# EAGLE library part LFXP6C_XXP208 (library lattice)
lfxp6c pqfp208 Auto generated by make-symbol-device-package-bsdl.ulp Rev. 19 Source: lfxp6c_pqfp208.bsm
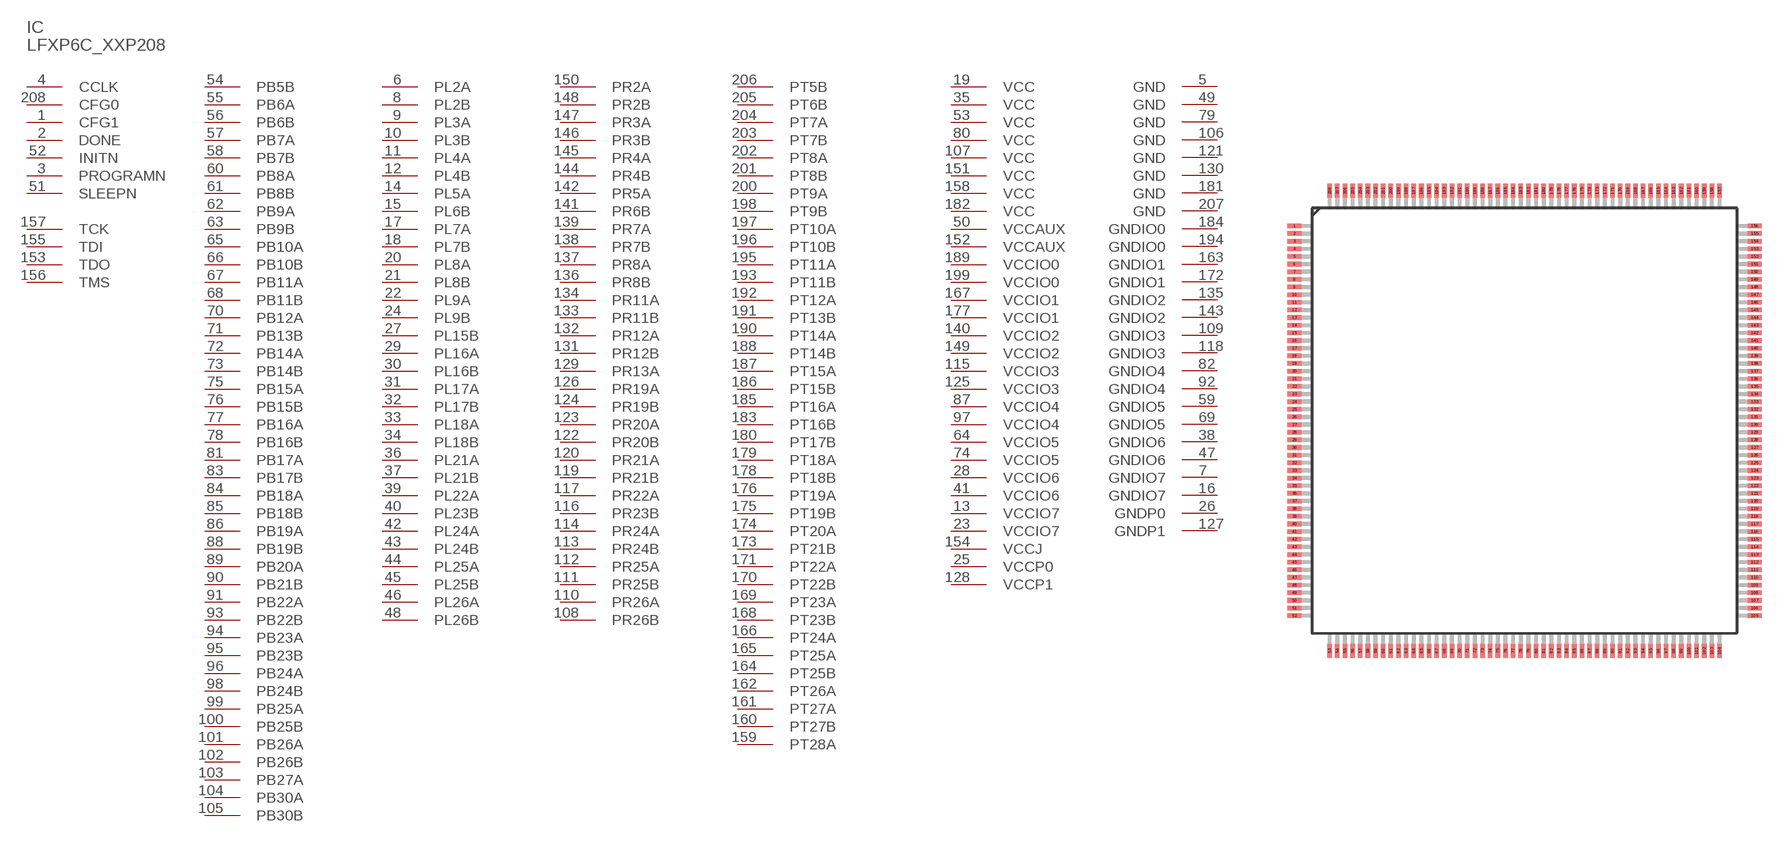
[diagram p11: symbol with the pads of PQFP_208; footprint PQFP_208]

Designator prefix IC

## LFXP6C_XXP208 (OC_FARNELL: unknown; OC_NEWARK: unknown)  [PQFP_208]
1  CFG1  in
2  DONE
3  PROGRAMN  in
4  CCLK
5  GND  pwr
6  PL2A
7  GNDIO7  pwr
8  PL2B
9  PL3A
10  PL3B
11  PL4A
12  PL4B
13  VCCIO7  pwr
14  PL5A
15  PL6B
16  GNDIO7  pwr
17  PL7A
18  PL7B
19  VCC  pwr
20  PL8A
21  PL8B
22  PL9A
23  VCCIO7  pwr
24  PL9B
25  VCCP0  pwr
26  GNDP0  pwr
27  PL15B
28  VCCIO6  pwr
29  PL16A
30  PL16B
31  PL17A
32  PL17B
33  PL18A
34  PL18B
35  VCC  pwr
36  PL21A
37  PL21B
38  GNDIO6  pwr
39  PL22A
40  PL23B
41  VCCIO6  pwr
42  PL24A
43  PL24B
44  PL25A
45  PL25B
46  PL26A
47  GNDIO6  pwr
48  PL26B
49  GND  pwr
50  VCCAUX  pwr
51  SLEEPN  in
52  INITN
53  VCC  pwr
54  PB5B
55  PB6A
56  PB6B
57  PB7A
58  PB7B
59  GNDIO5  pwr
60  PB8A
61  PB8B
62  PB9A
63  PB9B
64  VCCIO5  pwr
65  PB10A
66  PB10B
67  PB11A
68  PB11B
69  GNDIO5  pwr
70  PB12A
71  PB13B
72  PB14A
73  PB14B
74  VCCIO5  pwr
75  PB15A
76  PB15B
77  PB16A
78  PB16B
79  GND  pwr
80  VCC  pwr
81  PB17A
82  GNDIO4  pwr
83  PB17B
84  PB18A
85  PB18B
86  PB19A
87  VCCIO4  pwr
88  PB19B
89  PB20A
90  PB21B
91  PB22A
92  GNDIO4  pwr
93  PB22B
94  PB23A
95  PB23B
96  PB24A
97  VCCIO4  pwr
98  PB24B
99  PB25A
100  PB25B
101  PB26A
102  PB26B
103  PB27A
104  PB30A
105  PB30B
106  GND  pwr
107  VCC  pwr
108  PR26B
109  GNDIO3  pwr
110  PR26A
111  PR25B
112  PR25A
113  PR24B
114  PR24A
115  VCCIO3  pwr
116  PR23B
117  PR22A
118  GNDIO3  pwr
119  PR21B
120  PR21A
121  GND  pwr
122  PR20B
123  PR20A
124  PR19B
125  VCCIO3  pwr
126  PR19A
127  GNDP1  pwr
128  VCCP1  pwr
129  PR13A
130  GND  pwr
131  PR12B
132  PR12A
133  PR11B
134  PR11A
135  GNDIO2  pwr
136  PR8B
137  PR8A
138  PR7B
139  PR7A
140  VCCIO2  pwr
141  PR6B
142  PR5A
143  GNDIO2  pwr
144  PR4B
145  PR4A
146  PR3B
147  PR3A
148  PR2B
149  VCCIO2  pwr
150  PR2A
151  VCC  pwr
152  VCCAUX  pwr
153  TDO  out
154  VCCJ  pwr
155  TDI  in
156  TMS  in
157  TCK  in
158  VCC  pwr
159  PT28A
160  PT27B
161  PT27A
162  PT26A
163  GNDIO1  pwr
164  PT25B
165  PT25A
166  PT24A
167  VCCIO1  pwr
168  PT23B
169  PT23A
170  PT22B
171  PT22A
172  GNDIO1  pwr
173  PT21B
174  PT20A
175  PT19B
176  PT19A
177  VCCIO1  pwr
178  PT18B
179  PT18A
180  PT17B
181  GND  pwr
182  VCC  pwr
183  PT16B
184  GNDIO0  pwr
185  PT16A
186  PT15B
187  PT15A
188  PT14B
189  VCCIO0  pwr
190  PT14A
191  PT13B
192  PT12A
193  PT11B
194  GNDIO0  pwr
195  PT11A
196  PT10B
197  PT10A
198  PT9B
199  VCCIO0  pwr
200  PT9A
201  PT8B
202  PT8A
203  PT7B
204  PT7A
205  PT6B
206  PT5B
207  GND  pwr
208  CFG0  in

## Footprint PQFP_208 (pad centres in mm)
PQFP_208 Auto generated by make-symbol-device-package-bsdl.ulp Rev. 19 Source: http://www.latticesemi.com/lit/docs/package/pkg.pdf
smd 0.9 x 0.3: 1 -15.05,12.75; 2 -15.05,12.25; 3 -15.05,11.75; 4 -15.05,11.25; 5 -15.05,10.75; 6 -15.05,10.25; 7 -15.05,9.75; 8 -15.05,9.25; 9 -15.05,8.75; 10 -15.05,8.25; 11 -15.05,7.75; 12 -15.05,7.25; 13 -15.05,6.75; 14 -15.05,6.25; 15 -15.05,5.75; 16 -15.05,5.25; 17 -15.05,4.75; 18 -15.05,4.25; 19 -15.05,3.75; 20 -15.05,3.25; 21 -15.05,2.75; 22 -15.05,2.25; 23 -15.05,1.75; 24 -15.05,1.25; 25 -15.05,0.75; 26 -15.05,0.25; 27 -15.05,-0.25; 28 -15.05,-0.75; 29 -15.05,-1.25; 30 -15.05,-1.75; 31 -15.05,-2.25; 32 -15.05,-2.75; 33 -15.05,-3.25; 34 -15.05,-3.75; 35 -15.05,-4.25; 36 -15.05,-4.75; 37 -15.05,-5.25; 38 -15.05,-5.75; 39 -15.05,-6.25; 40 -15.05,-6.75; 41 -15.05,-7.25; 42 -15.05,-7.75; 43 -15.05,-8.25; 44 -15.05,-8.75; 45 -15.05,-9.25; 46 -15.05,-9.75; 47 -15.05,-10.25; 48 -15.05,-10.75; 49 -15.05,-11.25; 50 -15.05,-11.75; 51 -15.05,-12.25; 52 -15.05,-12.75; 105 15.05,-12.75; 106 15.05,-12.25; 107 15.05,-11.75; 108 15.05,-11.25; 109 15.05,-10.75; 110 15.05,-10.25; 111 15.05,-9.75; 112 15.05,-9.25; 113 15.05,-8.75; 114 15.05,-8.25; 115 15.05,-7.75; 116 15.05,-7.25; 117 15.05,-6.75; 118 15.05,-6.25; 119 15.05,-5.75; 120 15.05,-5.25; 121 15.05,-4.75; 122 15.05,-4.25; 123 15.05,-3.75; 124 15.05,-3.25; 125 15.05,-2.75; 126 15.05,-2.25; 127 15.05,-1.75; 128 15.05,-1.25; 129 15.05,-0.75; 130 15.05,-0.25; 131 15.05,0.25; 132 15.05,0.75; 133 15.05,1.25; 134 15.05,1.75; 135 15.05,2.25; 136 15.05,2.75; 137 15.05,3.25; 138 15.05,3.75; 139 15.05,4.25; 140 15.05,4.75; 141 15.05,5.25; 142 15.05,5.75; 143 15.05,6.25; 144 15.05,6.75; 145 15.05,7.25; 146 15.05,7.75; 147 15.05,8.25; 148 15.05,8.75; 149 15.05,9.25; 150 15.05,9.75; 151 15.05,10.25; 152 15.05,10.75; 153 15.05,11.25; 154 15.05,11.75; 155 15.05,12.25; 156 15.05,12.75
smd 0.3 x 0.9: 53 -12.75,-15.05; 54 -12.25,-15.05; 55 -11.75,-15.05; 56 -11.25,-15.05; 57 -10.75,-15.05; 58 -10.25,-15.05; 59 -9.75,-15.05; 60 -9.25,-15.05; 61 -8.75,-15.05; 62 -8.25,-15.05; 63 -7.75,-15.05; 64 -7.25,-15.05; 65 -6.75,-15.05; 66 -6.25,-15.05; 67 -5.75,-15.05; 68 -5.25,-15.05; 69 -4.75,-15.05; 70 -4.25,-15.05; 71 -3.75,-15.05; 72 -3.25,-15.05; 73 -2.75,-15.05; 74 -2.25,-15.05; 75 -1.75,-15.05; 76 -1.25,-15.05; 77 -0.75,-15.05; 78 -0.25,-15.05; 79 0.25,-15.05; 80 0.75,-15.05; 81 1.25,-15.05; 82 1.75,-15.05; 83 2.25,-15.05; 84 2.75,-15.05; 85 3.25,-15.05; 86 3.75,-15.05; 87 4.25,-15.05; 88 4.75,-15.05; 89 5.25,-15.05; 90 5.75,-15.05; 91 6.25,-15.05; 92 6.75,-15.05; 93 7.25,-15.05; 94 7.75,-15.05; 95 8.25,-15.05; 96 8.75,-15.05; 97 9.25,-15.05; 98 9.75,-15.05; 99 10.25,-15.05; 100 10.75,-15.05; 101 11.25,-15.05; 102 11.75,-15.05; 103 12.25,-15.05; 104 12.75,-15.05; 157 12.75,15.05; 158 12.25,15.05; 159 11.75,15.05; 160 11.25,15.05; 161 10.75,15.05; 162 10.25,15.05; 163 9.75,15.05; 164 9.25,15.05; 165 8.75,15.05; 166 8.25,15.05; 167 7.75,15.05; 168 7.25,15.05; 169 6.75,15.05; 170 6.25,15.05; 171 5.75,15.05; 172 5.25,15.05; 173 4.75,15.05; 174 4.25,15.05; 175 3.75,15.05; 176 3.25,15.05; 177 2.75,15.05; 178 2.25,15.05; 179 1.75,15.05; 180 1.25,15.05; 181 0.75,15.05; 182 0.25,15.05; 183 -0.25,15.05; 184 -0.75,15.05; 185 -1.25,15.05; 186 -1.75,15.05; 187 -2.25,15.05; 188 -2.75,15.05; 189 -3.25,15.05; 190 -3.75,15.05; 191 -4.25,15.05; 192 -4.75,15.05; 193 -5.25,15.05; 194 -5.75,15.05; 195 -6.25,15.05; 196 -6.75,15.05; 197 -7.25,15.05; 198 -7.75,15.05; 199 -8.25,15.05; 200 -8.75,15.05; 201 -9.25,15.05; 202 -9.75,15.05; 203 -10.25,15.05; 204 -10.75,15.05; 205 -11.25,15.05; 206 -11.75,15.05; 207 -12.25,15.05; 208 -12.75,15.05